# EAGLE library part CD74HCT08M (library andgate)
Buy Part <https://snapeda.com/parts/CD74HCT08M/Texas%20Instruments/view-part/?ref=eda>
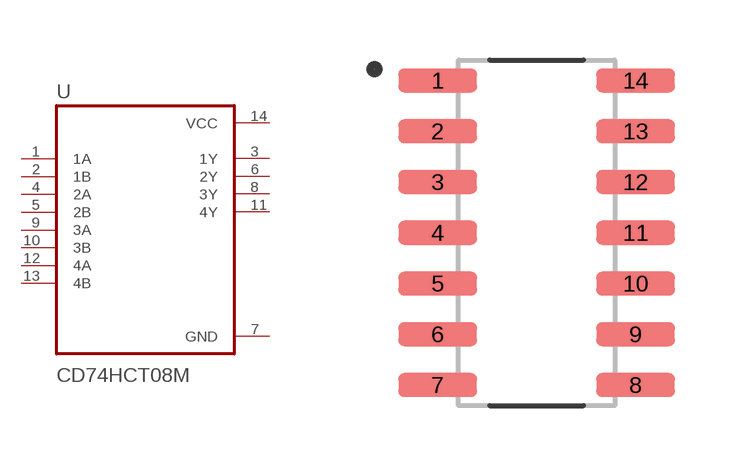
[diagram p0: symbol with the pads of SOIC127P600X175-14N; footprint SOIC127P600X175-14N]

Designator prefix U

## CD74HCT08M (Availability: Good; Description: High Speed CMOS Logic Quad 2-Input AND Gates 14-SOIC -55 to 125; DigiKey-Purchase-URL: https://snapeda.com/shop?store=DigiKey&id=118902; MF: Texas Instruments; MP: CD74HCT08M; Mouser-Purchase-URL: https://snapeda.com/shop?store=Mouser&id=118902; Package: SOIC-14 Texas Instruments; Price: None; Texas_Instruments-Purchase-URL: https://snapeda.com/shop?store=Texas+Instruments&id=118902)  [SOIC127P600X175-14N]
1  1A  in
2  1B  in
3  1Y  out
4  2A  in
5  2B  in
6  2Y  out
7  GND  pwr
8  3Y  out
9  3A  in
10  3B  in
11  4Y  out
12  4A  in
13  4B  in
14  VCC  pwr

## Footprint SOIC127P600X175-14N (pad centres in mm)
smd 1.97 x 0.6: 1 -2.475,3.81; 2 -2.475,2.54; 3 -2.475,1.27; 4 -2.475,0; 5 -2.475,-1.27; 6 -2.475,-2.54; 7 -2.475,-3.81; 8 2.475,-3.81; 9 2.475,-2.54; 10 2.475,-1.27; 11 2.475,0; 12 2.475,1.27; 13 2.475,2.54; 14 2.475,3.81